# Altium footprint library SMD Active.PcbLib: 72 footprints (part 1 of 8)
Each footprint in its own frame and in the unit in brackets; x right, y up, seen from the top. Pads: shape width x height; smd on the part's side, far side on the other; paste and mask are expansions set on the pad; w line width, h text height; cw(c..) or ccw(c..) is an arc to the next point about the centre after c.
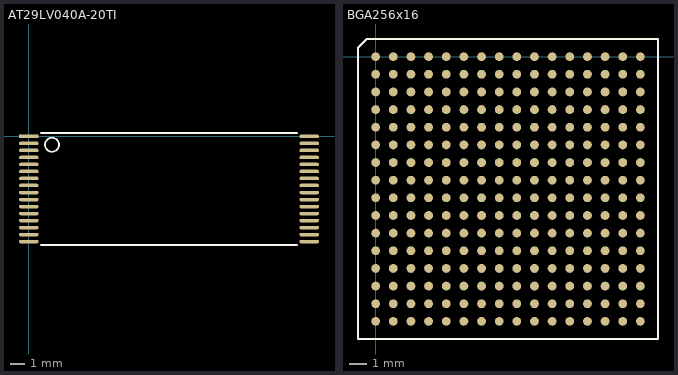
[diagram p0: the footprints below, top view; thin cyan lines are the x and y axes]

## AT29LV040A-20TI [mm]
pads (32):
  rect 1.4x0.25 smd: 1(0,0)
  oval 1.4x0.25 smd: 2(0,-0.5) 3(0,-1) 4(0,-1.5) 5(0,-2) 6(0,-2.5) 7(0,-3) 8(0,-3.5) 9(0,-4) 10(0,-4.5) 11(0,-5) 12(0,-5.5) 13(0,-6) 14(0,-6.5) 15(0,-7) 16(0,-7.5) 17(20,-7.5) 18(20,-7) 19(20,-6.5) 20(20,-6) 21(20,-5.5) 22(20,-5) 23(20,-4.5) 24(20,-4) 25(20,-3.5) 26(20,-3) 27(20,-2.5) 28(20,-2) 29(20,-1.5) 30(20,-1) 31(20,-0.5) 32(20,0)
Top Overlay:
  circle w0.127: c1.654,-0.595 r0.5
  lines w0.127: 0.85,-7.75 19.15,-7.75 ; 0.85,0.25 19.15,0.25

## BGA256x16 [mm]
pads (256):
  round 0.5 smd: A1(0,0) A2(1,0) A3(2,0) A4(3,0) A5(4,0) A6(5,0) A7(6,0) A8(7,0) A9(8,0) A10(9,0) A11(10,0) A12(11,0) A13(12,0) A14(13,0) A15(14,0) A16(15,0) B1(0,-1) B2(1,-1) B3(2,-1) B4(3,-1) B5(4,-1) B6(5,-1) B7(6,-1) B8(7,-1) B9(8,-1) B10(9,-1) B11(10,-1) B12(11,-1) B13(12,-1) B14(13,-1) B15(14,-1) B16(15,-1) C1(0,-2) C2(1,-2) C3(2,-2) C4(3,-2) C5(4,-2) C6(5,-2) C7(6,-2) C8(7,-2) C9(8,-2) C10(9,-2) C11(10,-2) C12(11,-2) C13(12,-2) C14(13,-2) C15(14,-2) C16(15,-2) D1(0,-3) D2(1,-3) D3(2,-3) D4(3,-3) D5(4,-3) D6(5,-3) D7(6,-3) D8(7,-3) D9(8,-3) D10(9,-3) D11(10,-3) D12(11,-3) D13(12,-3) D14(13,-3) D15(14,-3) D16(15,-3) E1(0,-4) E2(1,-4) E3(2,-4) E4(3,-4) E5(4,-4) E6(5,-4) E7(6,-4) E8(7,-4) E9(8,-4) E10(9,-4) E11(10,-4) E12(11,-4) E13(12,-4) E14(13,-4) E15(14,-4) E16(15,-4) F1(0,-5) F2(1,-5) F3(2,-5) F4(3,-5) F5(4,-5) F6(5,-5) F7(6,-5) F8(7,-5) F9(8,-5) F10(9,-5) F11(10,-5) F12(11,-5) F13(12,-5) F14(13,-5) F15(14,-5) F16(15,-5) G1(0,-6) G2(1,-6) G3(2,-6) G4(3,-6) G5(4,-6) G6(5,-6) G7(6,-6) G8(7,-6) G9(8,-6) G10(9,-6) G11(10,-6) G12(11,-6) G13(12,-6) G14(13,-6) G15(14,-6) G16(15,-6) H1(0,-7) H2(1,-7) H3(2,-7) H4(3,-7) H5(4,-7) H6(5,-7) H7(6,-7) H8(7,-7) H9(8,-7) H10(9,-7) H11(10,-7) H12(11,-7) H13(12,-7) H14(13,-7) H15(14,-7) H16(15,-7) J1(0,-8) J2(1,-8) J3(2,-8) J4(3,-8) J5(4,-8) J6(5,-8) J7(6,-8) J8(7,-8) J9(8,-8) J10(9,-8) J11(10,-8) J12(11,-8) J13(12,-8) J14(13,-8) J15(14,-8) J16(15,-8) K1(0,-9) K2(1,-9) K3(2,-9) K4(3,-9) K5(4,-9) K6(5,-9) K7(6,-9) K8(7,-9) K9(8,-9) K10(9,-9) K11(10,-9) K12(11,-9) K13(12,-9) K14(13,-9) K15(14,-9) K16(15,-9) L1(0,-10) L2(1,-10) L3(2,-10) L4(3,-10) L5(4,-10) L6(5,-10) L7(6,-10) L8(7,-10) L9(8,-10) L10(9,-10) L11(10,-10) L12(11,-10) L13(12,-10) L14(13,-10) L15(14,-10) L16(15,-10) M1(0,-11) M2(1,-11) M3(2,-11) M4(3,-11) M5(4,-11) M6(5,-11) M7(6,-11) M8(7,-11) M9(8,-11) M10(9,-11) M11(10,-11) M12(11,-11) M13(12,-11) M14(13,-11) M15(14,-11) M16(15,-11) N1(0,-12) N2(1,-12) N3(2,-12) N4(3,-12) N5(4,-12) N6(5,-12) N7(6,-12) N8(7,-12) N9(8,-12) N10(9,-12) N11(10,-12) N12(11,-12) N13(12,-12) N14(13,-12) N15(14,-12) N16(15,-12) P1(0,-13) P2(1,-13) P3(2,-13) P4(3,-13) P5(4,-13) P6(5,-13) P7(6,-13) P8(7,-13) P9(8,-13) P10(9,-13) P11(10,-13) P12(11,-13) P13(12,-13) P14(13,-13) P15(14,-13) P16(15,-13) R1(0,-14) R2(1,-14) R3(2,-14) R4(3,-14) R5(4,-14) R6(5,-14) R7(6,-14) R8(7,-14) R9(8,-14) R10(9,-14) R11(10,-14) R12(11,-14) R13(12,-14) R14(13,-14) R15(14,-14) R16(15,-14) T1(0,-15) T2(1,-15) T3(2,-15) T4(3,-15) T5(4,-15) T6(5,-15) T7(6,-15) T8(7,-15) T9(8,-15) T10(9,-15) T11(10,-15) T12(11,-15) T13(12,-15) T14(13,-15) T15(14,-15) T16(15,-15)
Top Overlay:
  lines w0.127: -1,-16 16,-16 16,1 -0.5,1 -1,0.5 -1,-16
3D body: height 0.76, standoff 0.51, extent -1.016,-15.977 16.002,1.041
3D body: height 1.27, standoff 0.76, extent 0,-15.011 14.986,-0.025
3D body: height 0.51, standoff 0, extent -0.251,-0.253 0.254,0.253
3D body: height 0.51, standoff 0, extent 0.762,-0.253 1.267,0.253
3D body: height 0.51, standoff 0, extent 1.753,-0.253 2.258,0.253
3D body: height 0.51, standoff 0, extent 2.743,-0.253 3.249,0.253
3D body: height 0.51, standoff 0, extent 6.731,-0.253 7.236,0.253
3D body: height 0.51, standoff 0, extent 5.74,-0.253 6.246,0.253
3D body: height 0.51, standoff 0, extent 4.75,-0.253 5.255,0.253
3D body: height 0.51, standoff 0, extent 3.736,-0.253 4.242,0.253
3D body: height 0.51, standoff 0, extent 10.744,-0.253 11.25,0.253
3D body: height 0.51, standoff 0, extent 9.754,-0.253 10.259,0.253
3D body: height 0.51, standoff 0, extent 8.763,-0.253 9.268,0.253
3D body: height 0.51, standoff 0, extent 7.75,-0.253 8.255,0.253
3D body: height 0.51, standoff 0, extent 14.732,-0.253 15.237,0.253
3D body: height 0.51, standoff 0, extent 13.741,-0.253 14.247,0.253
3D body: height 0.51, standoff 0, extent 12.751,-0.253 13.256,0.253
3D body: height 0.51, standoff 0, extent 11.737,-0.253 12.243,0.253
3D body: height 0.51, standoff 0, extent 11.737,-1.269 12.243,-0.763
3D body: height 0.51, standoff 0, extent 12.751,-1.269 13.256,-0.763
3D body: height 0.51, standoff 0, extent 13.741,-1.269 14.247,-0.763
3D body: height 0.51, standoff 0, extent 14.732,-1.269 15.237,-0.763
3D body: height 0.51, standoff 0, extent 7.75,-1.269 8.255,-0.763
3D body: height 0.51, standoff 0, extent 8.763,-1.269 9.268,-0.763
3D body: height 0.51, standoff 0, extent 9.754,-1.269 10.259,-0.763
3D body: height 0.51, standoff 0, extent 10.744,-1.269 11.25,-0.763
3D body: height 0.51, standoff 0, extent 3.736,-1.269 4.242,-0.763
3D body: height 0.51, standoff 0, extent 4.75,-1.269 5.255,-0.763
3D body: height 0.51, standoff 0, extent 5.74,-1.269 6.246,-0.763
3D body: height 0.51, standoff 0, extent 6.731,-1.269 7.236,-0.763
3D body: height 0.51, standoff 0, extent 2.743,-1.269 3.249,-0.763
3D body: height 0.51, standoff 0, extent 1.753,-1.269 2.258,-0.763
3D body: height 0.51, standoff 0, extent 0.762,-1.269 1.267,-0.763
3D body: height 0.51, standoff 0, extent -0.251,-1.269 0.254,-0.763
3D body: height 0.51, standoff 0, extent 11.737,-2.26 12.243,-1.754
3D body: height 0.51, standoff 0, extent 12.751,-2.26 13.256,-1.754
3D body: height 0.51, standoff 0, extent 13.741,-2.26 14.247,-1.754
3D body: height 0.51, standoff 0, extent 14.732,-2.26 15.237,-1.754
3D body: height 0.51, standoff 0, extent 7.75,-2.26 8.255,-1.754
3D body: height 0.51, standoff 0, extent 8.763,-2.26 9.268,-1.754
3D body: height 0.51, standoff 0, extent 9.754,-2.26 10.259,-1.754
3D body: height 0.51, standoff 0, extent 10.744,-2.26 11.25,-1.754
3D body: height 0.51, standoff 0, extent 3.736,-2.26 4.242,-1.754
3D body: height 0.51, standoff 0, extent 4.75,-2.26 5.255,-1.754
3D body: height 0.51, standoff 0, extent 5.74,-2.26 6.246,-1.754
3D body: height 0.51, standoff 0, extent 6.731,-2.26 7.236,-1.754
3D body: height 0.51, standoff 0, extent 2.743,-2.26 3.249,-1.754
3D body: height 0.51, standoff 0, extent 1.753,-2.26 2.258,-1.754
3D body: height 0.51, standoff 0, extent 0.762,-2.26 1.267,-1.754
3D body: height 0.51, standoff 0, extent -0.251,-2.26 0.254,-1.754
3D body: height 0.51, standoff 0, extent 11.737,-3.25 12.243,-2.744
3D body: height 0.51, standoff 0, extent 12.751,-3.25 13.256,-2.744
3D body: height 0.51, standoff 0, extent 13.741,-3.25 14.247,-2.744
3D body: height 0.51, standoff 0, extent 14.732,-3.25 15.237,-2.744
3D body: height 0.51, standoff 0, extent 7.75,-3.25 8.255,-2.744
3D body: height 0.51, standoff 0, extent 8.763,-3.25 9.268,-2.744
3D body: height 0.51, standoff 0, extent 9.754,-3.25 10.259,-2.744
3D body: height 0.51, standoff 0, extent 10.744,-3.25 11.25,-2.744
3D body: height 0.51, standoff 0, extent 3.736,-3.25 4.242,-2.744
3D body: height 0.51, standoff 0, extent 4.75,-3.25 5.255,-2.744
3D body: height 0.51, standoff 0, extent 5.74,-3.25 6.246,-2.744
3D body: height 0.51, standoff 0, extent 6.731,-3.25 7.236,-2.744
3D body: height 0.51, standoff 0, extent 2.743,-3.25 3.249,-2.744
3D body: height 0.51, standoff 0, extent 1.753,-3.25 2.258,-2.744
3D body: height 0.51, standoff 0, extent 0.762,-3.25 1.267,-2.744
3D body: height 0.51, standoff 0, extent -0.251,-3.25 0.254,-2.744
3D body: height 0.51, standoff 0, extent 11.737,-4.241 12.243,-3.735
3D body: height 0.51, standoff 0, extent 12.751,-4.241 13.256,-3.735
3D body: height 0.51, standoff 0, extent 13.741,-4.241 14.247,-3.735
3D body: height 0.51, standoff 0, extent 14.732,-4.241 15.237,-3.735
3D body: height 0.51, standoff 0, extent 7.75,-4.241 8.255,-3.735
3D body: height 0.51, standoff 0, extent 8.763,-4.241 9.268,-3.735
3D body: height 0.51, standoff 0, extent 9.754,-4.241 10.259,-3.735
3D body: height 0.51, standoff 0, extent 10.744,-4.241 11.25,-3.735
3D body: height 0.51, standoff 0, extent 3.736,-4.241 4.242,-3.735
3D body: height 0.51, standoff 0, extent 4.75,-4.241 5.255,-3.735
3D body: height 0.51, standoff 0, extent 5.74,-4.241 6.246,-3.735
3D body: height 0.51, standoff 0, extent 6.731,-4.241 7.236,-3.735
3D body: height 0.51, standoff 0, extent 2.743,-4.241 3.249,-3.735
3D body: height 0.51, standoff 0, extent 1.753,-4.241 2.258,-3.735
3D body: height 0.51, standoff 0, extent 0.762,-4.241 1.267,-3.735
3D body: height 0.51, standoff 0, extent -0.251,-4.241 0.254,-3.735
3D body: height 0.51, standoff 0, extent 11.737,-5.257 12.243,-4.751
3D body: height 0.51, standoff 0, extent 12.751,-5.257 13.256,-4.751
3D body: height 0.51, standoff 0, extent 13.741,-5.257 14.247,-4.751
3D body: height 0.51, standoff 0, extent 14.732,-5.257 15.237,-4.751
3D body: height 0.51, standoff 0, extent 7.75,-5.257 8.255,-4.751
3D body: height 0.51, standoff 0, extent 8.763,-5.257 9.268,-4.751
3D body: height 0.51, standoff 0, extent 9.754,-5.257 10.259,-4.751
3D body: height 0.51, standoff 0, extent 10.744,-5.257 11.25,-4.751
3D body: height 0.51, standoff 0, extent 3.736,-5.257 4.242,-4.751
3D body: height 0.51, standoff 0, extent 4.75,-5.257 5.255,-4.751
3D body: height 0.51, standoff 0, extent 5.74,-5.257 6.246,-4.751
3D body: height 0.51, standoff 0, extent 6.731,-5.257 7.236,-4.751
3D body: height 0.51, standoff 0, extent 2.743,-5.257 3.249,-4.751
3D body: height 0.51, standoff 0, extent 1.753,-5.257 2.258,-4.751
3D body: height 0.51, standoff 0, extent 0.762,-5.257 1.267,-4.751
3D body: height 0.51, standoff 0, extent -0.251,-5.257 0.254,-4.751
3D body: height 0.51, standoff 0, extent 11.737,-6.247 12.243,-5.741
3D body: height 0.51, standoff 0, extent 12.751,-6.247 13.256,-5.741
3D body: height 0.51, standoff 0, extent 13.741,-6.247 14.247,-5.741
3D body: height 0.51, standoff 0, extent 14.732,-6.247 15.237,-5.741
3D body: height 0.51, standoff 0, extent 7.75,-6.247 8.255,-5.741
3D body: height 0.51, standoff 0, extent 8.763,-6.247 9.268,-5.741
3D body: height 0.51, standoff 0, extent 9.754,-6.247 10.259,-5.741
3D body: height 0.51, standoff 0, extent 10.744,-6.247 11.25,-5.741
3D body: height 0.51, standoff 0, extent 3.736,-6.247 4.242,-5.741
3D body: height 0.51, standoff 0, extent 4.75,-6.247 5.255,-5.741
3D body: height 0.51, standoff 0, extent 5.74,-6.247 6.246,-5.741
3D body: height 0.51, standoff 0, extent 6.731,-6.247 7.236,-5.741
3D body: height 0.51, standoff 0, extent 2.743,-6.247 3.249,-5.741
3D body: height 0.51, standoff 0, extent 1.753,-6.247 2.258,-5.741
3D body: height 0.51, standoff 0, extent 0.762,-6.247 1.267,-5.741
3D body: height 0.51, standoff 0, extent -0.251,-6.247 0.254,-5.741
3D body: height 0.51, standoff 0, extent 11.737,-7.263 12.243,-6.757
3D body: height 0.51, standoff 0, extent 12.751,-7.263 13.256,-6.757
3D body: height 0.51, standoff 0, extent 13.741,-7.263 14.247,-6.757
3D body: height 0.51, standoff 0, extent 14.732,-7.263 15.237,-6.757
3D body: height 0.51, standoff 0, extent 7.75,-7.263 8.255,-6.757
3D body: height 0.51, standoff 0, extent 8.763,-7.263 9.268,-6.757
3D body: height 0.51, standoff 0, extent 9.754,-7.263 10.259,-6.757
3D body: height 0.51, standoff 0, extent 10.744,-7.263 11.25,-6.757
3D body: height 0.51, standoff 0, extent 3.736,-7.263 4.242,-6.757
3D body: height 0.51, standoff 0, extent 4.75,-7.263 5.255,-6.757
3D body: height 0.51, standoff 0, extent 5.74,-7.263 6.246,-6.757
3D body: height 0.51, standoff 0, extent 6.731,-7.263 7.236,-6.757
3D body: height 0.51, standoff 0, extent 2.743,-7.263 3.249,-6.757
3D body: height 0.51, standoff 0, extent 1.753,-7.263 2.258,-6.757
3D body: height 0.51, standoff 0, extent 0.762,-7.263 1.267,-6.757
3D body: height 0.51, standoff 0, extent -0.251,-7.263 0.254,-6.757
3D body: height 0.51, standoff 0, extent 11.737,-8.254 12.243,-7.748
3D body: height 0.51, standoff 0, extent 12.751,-8.254 13.256,-7.748
3D body: height 0.51, standoff 0, extent 13.741,-8.254 14.247,-7.748
3D body: height 0.51, standoff 0, extent 14.732,-8.254 15.237,-7.748
3D body: height 0.51, standoff 0, extent 7.75,-8.254 8.255,-7.748
3D body: height 0.51, standoff 0, extent 8.763,-8.254 9.268,-7.748
3D body: height 0.51, standoff 0, extent 9.754,-8.254 10.259,-7.748
3D body: height 0.51, standoff 0, extent 10.744,-8.254 11.25,-7.748
3D body: height 0.51, standoff 0, extent 3.736,-8.254 4.242,-7.748
3D body: height 0.51, standoff 0, extent 4.75,-8.254 5.255,-7.748
3D body: height 0.51, standoff 0, extent 5.74,-8.254 6.246,-7.748
3D body: height 0.51, standoff 0, extent 6.731,-8.254 7.236,-7.748
3D body: height 0.51, standoff 0, extent 2.743,-8.254 3.249,-7.748
3D body: height 0.51, standoff 0, extent 1.753,-8.254 2.258,-7.748
3D body: height 0.51, standoff 0, extent 0.762,-8.254 1.267,-7.748
3D body: height 0.51, standoff 0, extent -0.251,-8.254 0.254,-7.748
3D body: height 0.51, standoff 0, extent 11.737,-9.245 12.243,-8.739
3D body: height 0.51, standoff 0, extent 12.751,-9.245 13.256,-8.739
3D body: height 0.51, standoff 0, extent 13.741,-9.245 14.247,-8.739
3D body: height 0.51, standoff 0, extent 14.732,-9.245 15.237,-8.739
3D body: height 0.51, standoff 0, extent 7.75,-9.245 8.255,-8.739
3D body: height 0.51, standoff 0, extent 8.763,-9.245 9.268,-8.739
3D body: height 0.51, standoff 0, extent 9.754,-9.245 10.259,-8.739
3D body: height 0.51, standoff 0, extent 10.744,-9.245 11.25,-8.739
3D body: height 0.51, standoff 0, extent 3.736,-9.245 4.242,-8.739
3D body: height 0.51, standoff 0, extent 4.75,-9.245 5.255,-8.739
3D body: height 0.51, standoff 0, extent 5.74,-9.245 6.246,-8.739
3D body: height 0.51, standoff 0, extent 6.731,-9.245 7.236,-8.739
3D body: height 0.51, standoff 0, extent 2.743,-9.245 3.249,-8.739
3D body: height 0.51, standoff 0, extent 1.753,-9.245 2.258,-8.739
3D body: height 0.51, standoff 0, extent 0.762,-9.245 1.267,-8.739
3D body: height 0.51, standoff 0, extent -0.251,-9.245 0.254,-8.739
3D body: height 0.51, standoff 0, extent 11.737,-10.261 12.243,-9.755
3D body: height 0.51, standoff 0, extent 12.751,-10.261 13.256,-9.755
3D body: height 0.51, standoff 0, extent 13.741,-10.261 14.247,-9.755
3D body: height 0.51, standoff 0, extent 14.732,-10.261 15.237,-9.755
3D body: height 0.51, standoff 0, extent 7.75,-10.261 8.255,-9.755
3D body: height 0.51, standoff 0, extent 8.763,-10.261 9.268,-9.755
3D body: height 0.51, standoff 0, extent 9.754,-10.261 10.259,-9.755
3D body: height 0.51, standoff 0, extent 10.744,-10.261 11.25,-9.755
3D body: height 0.51, standoff 0, extent 3.736,-10.261 4.242,-9.755
3D body: height 0.51, standoff 0, extent 4.75,-10.261 5.255,-9.755
3D body: height 0.51, standoff 0, extent 5.74,-10.261 6.246,-9.755
3D body: height 0.51, standoff 0, extent 6.731,-10.261 7.236,-9.755
3D body: height 0.51, standoff 0, extent 2.743,-10.261 3.249,-9.755
3D body: height 0.51, standoff 0, extent 1.753,-10.261 2.258,-9.755
3D body: height 0.51, standoff 0, extent 0.762,-10.261 1.267,-9.755
3D body: height 0.51, standoff 0, extent -0.251,-10.261 0.254,-9.755
3D body: height 0.51, standoff 0, extent 11.737,-11.251 12.243,-10.745
3D body: height 0.51, standoff 0, extent 12.751,-11.251 13.256,-10.745
3D body: height 0.51, standoff 0, extent 13.741,-11.251 14.247,-10.745
3D body: height 0.51, standoff 0, extent 14.732,-11.251 15.237,-10.745
3D body: height 0.51, standoff 0, extent 7.75,-11.251 8.255,-10.745
3D body: height 0.51, standoff 0, extent 8.763,-11.251 9.268,-10.745
3D body: height 0.51, standoff 0, extent 9.754,-11.251 10.259,-10.745
3D body: height 0.51, standoff 0, extent 10.744,-11.251 11.25,-10.745
3D body: height 0.51, standoff 0, extent 3.736,-11.251 4.242,-10.745
3D body: height 0.51, standoff 0, extent 4.75,-11.251 5.255,-10.745
3D body: height 0.51, standoff 0, extent 5.74,-11.251 6.246,-10.745
3D body: height 0.51, standoff 0, extent 6.731,-11.251 7.236,-10.745
3D body: height 0.51, standoff 0, extent 2.743,-11.251 3.249,-10.745
3D body: height 0.51, standoff 0, extent 1.753,-11.251 2.258,-10.745
3D body: height 0.51, standoff 0, extent 0.762,-11.251 1.267,-10.745
3D body: height 0.51, standoff 0, extent -0.251,-11.251 0.254,-10.745
3D body: height 0.51, standoff 0, extent 11.737,-12.242 12.243,-11.736
3D body: height 0.51, standoff 0, extent 12.751,-12.242 13.256,-11.736
3D body: height 0.51, standoff 0, extent 13.741,-12.242 14.247,-11.736
3D body: height 0.51, standoff 0, extent 14.732,-12.242 15.237,-11.736
3D body: height 0.51, standoff 0, extent 7.75,-12.242 8.255,-11.736
3D body: height 0.51, standoff 0, extent 8.763,-12.242 9.268,-11.736
3D body: height 0.51, standoff 0, extent 9.754,-12.242 10.259,-11.736
3D body: height 0.51, standoff 0, extent 10.744,-12.242 11.25,-11.736
3D body: height 0.51, standoff 0, extent 3.736,-12.242 4.242,-11.736
3D body: height 0.51, standoff 0, extent 4.75,-12.242 5.255,-11.736
3D body: height 0.51, standoff 0, extent 5.74,-12.242 6.246,-11.736
3D body: height 0.51, standoff 0, extent 6.731,-12.242 7.236,-11.736
3D body: height 0.51, standoff 0, extent 2.743,-12.242 3.249,-11.736
3D body: height 0.51, standoff 0, extent 1.753,-12.242 2.258,-11.736
3D body: height 0.51, standoff 0, extent 0.762,-12.242 1.267,-11.736
3D body: height 0.51, standoff 0, extent -0.251,-12.242 0.254,-11.736
3D body: height 0.51, standoff 0, extent 11.737,-13.258 12.243,-12.752
3D body: height 0.51, standoff 0, extent 12.751,-13.258 13.256,-12.752
3D body: height 0.51, standoff 0, extent 13.741,-13.258 14.247,-12.752
3D body: height 0.51, standoff 0, extent 14.732,-13.258 15.237,-12.752
3D body: height 0.51, standoff 0, extent 7.75,-13.258 8.255,-12.752
3D body: height 0.51, standoff 0, extent 8.763,-13.258 9.268,-12.752
3D body: height 0.51, standoff 0, extent 9.754,-13.258 10.259,-12.752
3D body: height 0.51, standoff 0, extent 10.744,-13.258 11.25,-12.752
3D body: height 0.51, standoff 0, extent 3.736,-13.258 4.242,-12.752
3D body: height 0.51, standoff 0, extent 4.75,-13.258 5.255,-12.752
3D body: height 0.51, standoff 0, extent 5.74,-13.258 6.246,-12.752
3D body: height 0.51, standoff 0, extent 6.731,-13.258 7.236,-12.752
3D body: height 0.51, standoff 0, extent 2.743,-13.258 3.249,-12.752
3D body: height 0.51, standoff 0, extent 1.753,-13.258 2.258,-12.752
3D body: height 0.51, standoff 0, extent 0.762,-13.258 1.267,-12.752
3D body: height 0.51, standoff 0, extent -0.251,-13.258 0.254,-12.752
3D body: height 0.51, standoff 0, extent 11.737,-14.248 12.243,-13.742
3D body: height 0.51, standoff 0, extent 12.751,-14.248 13.256,-13.742
3D body: height 0.51, standoff 0, extent 13.741,-14.248 14.247,-13.742
3D body: height 0.51, standoff 0, extent 14.732,-14.248 15.237,-13.742
3D body: height 0.51, standoff 0, extent 7.75,-14.248 8.255,-13.742
3D body: height 0.51, standoff 0, extent 8.763,-14.248 9.268,-13.742
3D body: height 0.51, standoff 0, extent 9.754,-14.248 10.259,-13.742
3D body: height 0.51, standoff 0, extent 10.744,-14.248 11.25,-13.742
3D body: height 0.51, standoff 0, extent 3.736,-14.248 4.242,-13.742
3D body: height 0.51, standoff 0, extent 4.75,-14.248 5.255,-13.742
3D body: height 0.51, standoff 0, extent 5.74,-14.248 6.246,-13.742
3D body: height 0.51, standoff 0, extent 6.731,-14.248 7.236,-13.742
3D body: height 0.51, standoff 0, extent 2.743,-14.248 3.249,-13.742
3D body: height 0.51, standoff 0, extent 1.753,-14.248 2.258,-13.742
3D body: height 0.51, standoff 0, extent 0.762,-14.248 1.267,-13.742
3D body: height 0.51, standoff 0, extent -0.251,-14.248 0.254,-13.742
3D body: height 0.51, standoff 0, extent 11.712,-15.264 12.217,-14.758
3D body: height 0.51, standoff 0, extent 12.725,-15.264 13.231,-14.758
3D body: height 0.51, standoff 0, extent 13.716,-15.264 14.221,-14.758
3D body: height 0.51, standoff 0, extent 14.707,-15.264 15.212,-14.758
3D body: height 0.51, standoff 0, extent 7.724,-15.264 8.23,-14.758
3D body: height 0.51, standoff 0, extent 8.738,-15.264 9.243,-14.758
3D body: height 0.51, standoff 0, extent 9.728,-15.264 10.234,-14.758
3D body: height 0.51, standoff 0, extent 10.719,-15.264 11.224,-14.758
3D body: height 0.51, standoff 0, extent 3.711,-15.264 4.216,-14.758
3D body: height 0.51, standoff 0, extent 4.724,-15.264 5.23,-14.758
3D body: height 0.51, standoff 0, extent 5.715,-15.264 6.22,-14.758
3D body: height 0.51, standoff 0, extent 6.706,-15.264 7.211,-14.758
3D body: height 0.51, standoff 0, extent 2.718,-15.264 3.223,-14.758
3D body: height 0.51, standoff 0, extent 1.727,-15.264 2.233,-14.758
3D body: height 0.51, standoff 0, extent 0.737,-15.264 1.242,-14.758
3D body: height 0.51, standoff 0, extent -0.277,-15.264 0.229,-14.758
3D body: height 0.79, standoff 0.76, extent -1.016,-0.254 0.305,1.041